# EAGLE library part DG409DJZ (library Intersil_By_element14_Batch_1)
Single 8-Channel/Differential 4-Channel
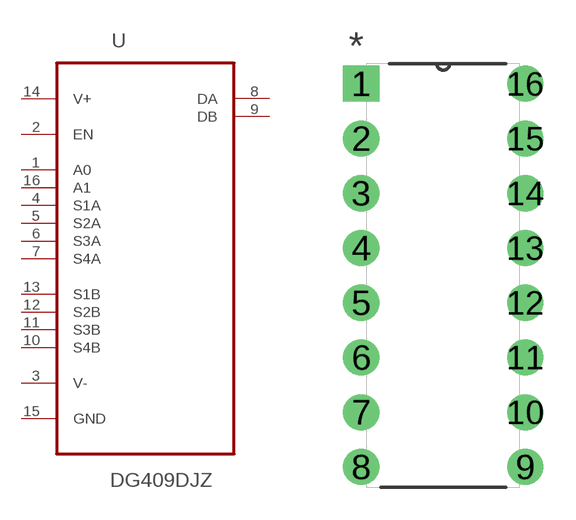
[diagram p34: symbol with the pads of DIP254P762X533-16; footprint DIP254P762X533-16]

Designator prefix U

## DG409DJZ (MPN: DG409DJZ; OC_FARNELL: 9664084; OC_NEWARK: 61J5529; PACKAGE: PDIP-16; SUPPLIER: Intersil)  [DIP254P762X533-16]
1  A0  in
2  EN  in
3  V-  pwr
4  S1A  in
5  S2A  in
6  S3A  in
7  S4A  in
8  DA  out
9  DB  out
10  S4B  in
11  S3B  in
12  S2B  in
13  S1B  in
14  V+  pwr
15  GND  pas
16  A1  in

## Footprint DIP254P762X533-16 (pad centres in mm)
drill 1.118 square: 1 -7.62,17.78
drill 1.118: 2 -7.62,15.24; 3 -7.62,12.7; 4 -7.62,10.16; 5 -7.62,7.62; 6 -7.62,5.08; 7 -7.62,2.54; 8 -7.62,0; 9 0,0; 10 0,2.54; 11 0,5.08; 12 0,7.62; 13 0,10.16; 14 0,12.7; 15 0,15.24; 16 0,17.78